# EAGLE library part ATTINY461 (library atmel)
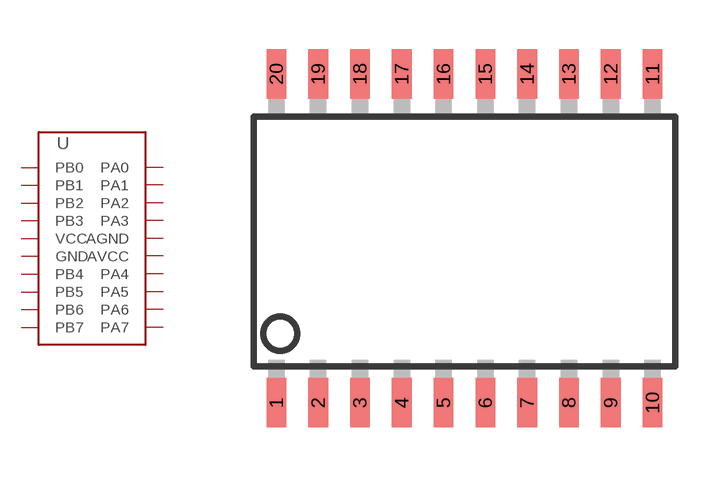
[diagram p84: symbol with the pads of SOIC20S; footprint SOIC20S]

Designator prefix -

## ATTINY461  [SOIC20S]
1  PB0
2  PB1
3  PB2
4  PB3
5  VCC
6  GND
7  PB4
8  PB5
9  PB6
10  PB7
11  PA7
12  PA6
13  PA5
14  PA4
15  AVCC
16  AGND
17  PA3
18  PA2
19  PA1
20  PA0

## Footprint SOIC20S (pad centres in mm)
Wide Plastic Gull Wing Small Outline Package
smd 0.6 x 1.5: 1 -5.715,-5; 2 -4.445,-5; 3 -3.175,-5; 4 -1.905,-5; 5 -0.635,-5; 6 0.635,-5; 7 1.905,-5; 8 3.175,-5; 9 4.445,-5; 10 5.715,-5; 11 5.715,5; 12 4.445,5; 13 3.175,5; 14 1.905,5; 15 0.635,5; 16 -0.635,5; 17 -1.905,5; 18 -3.175,5; 19 -4.445,5; 20 -5.715,5